# EAGLE library part SN74LVC2T45 (library BERGCloud-OSH)
TEXAS INSTRUMENTS SN74LVC2T45 DUAL-BIT DUAL-SUPPLY BUS TRANSCEIVER WITH CONFIGURABLE VOLTAGE TRANSLATION AND 3-STATE OUTPUTS http://focus.ti.com/docs/prod/folders/print/sn74lvc2t45.html Created by AH. BERG Cloud <http://www.bergcloud.com>
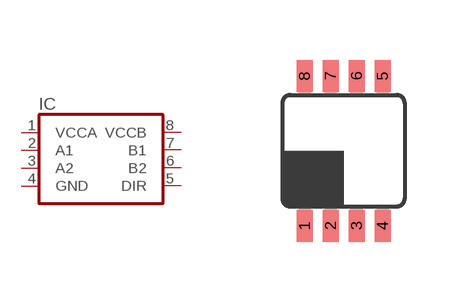
[diagram p6: symbol with the pads of 8PIN_DCT; footprint 8PIN_DCT]

Designator prefix IC

## SN74LVC2T45DCT  [8PIN_DCT]
1  VCCA
2  A1
3  A2
4  GND
5  DIR
6  B2
7  B1
8  VCCB

## Footprint 8PIN_DCT (pad centres in mm)
DCT package
smd 0.4 x 0.8: 1 -0.975,-1.875; 2 -0.325,-1.875; 3 0.325,-1.875; 4 0.975,-1.875; 5 0.975,1.875; 6 0.325,1.875; 7 -0.325,1.875; 8 -0.975,1.875